# EAGLE library part EL1881CSZ (library Intersil_By_element14_Batch_1)
Sync Separator, Low Power
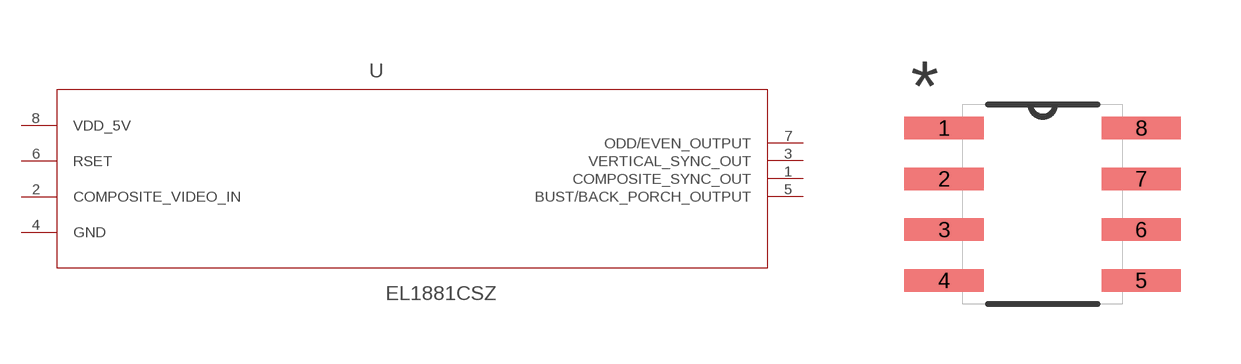
[diagram p49: symbol with the pads of SOIC127P600X175-8N; footprint SOIC127P600X175-8N]

Designator prefix U

## EL1881CSZ (MPN: EL1881CSZ; OC_FARNELL: -; OC_NEWARK: 57K3118; PACKAGE: SOIC-8; SUPPLIER: INTERSIL)  [SOIC127P600X175-8N]
1  COMPOSITE_SYNC_OUT  out
2  COMPOSITE_VIDEO_IN  in
3  VERTICAL_SYNC_OUT  out
4  GND  pas
5  BUST/BACK_PORCH_OUTPUT  out
6  RSET  in
7  ODD/EVEN_OUTPUT  out
8  VDD_5V  pwr

## Footprint SOIC127P600X175-8N (pad centres in mm)
smd 1.981 x 0.559: 1 -2.464,1.905; 2 -2.464,0.635; 3 -2.464,-0.635; 4 -2.464,-1.905; 5 2.464,-1.905; 6 2.464,-0.635; 7 2.464,0.635; 8 2.464,1.905